# Altium integrated library ADV7282.IntLib: 1 symbol
Pins are listed as number, name and electrical type; pins without a type are passive.

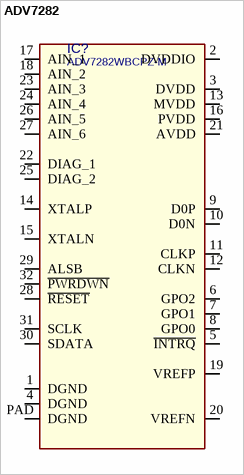
[diagram p0: symbol ADV7282]

## ADV7282
designator IC?, comment ADV7282WBCPZ-M
ID: ADV7282WBCPZ-M; PDF: http://www.analog.com/static/imported-files/data_sheets/ADV7282.PDF
footprint LFCSP-32
pins: 1 DGND, 2 DVDDIO, 3 DVDD, 4 DGND, 5 ~{INTRQ}, 6 GPO2, 7 GPO1, 8 GPO0, 9 D0P, 10 D0N, 11 CLKP, 12 CLKN, 13 MVDD, 14 XTALP, 15 XTALN, 16 PVDD, 17 AIN_1, 18 AIN_2, 19 VREFP, 20 VREFN, 21 AVDD, 22 DIAG_1, 23 AIN_3, 24 AIN_4, 25 DIAG_2, 26 AIN_5, 27 AIN_6, 28 ~{RESET}, 29 ALSB, 30 SDATA, 31 SCLK, 32 ~{PWRDWN}, PAD DGND